# EAGLE library part SCREWTERM_9P (library ME507)
PHOENIX CONNECTOR
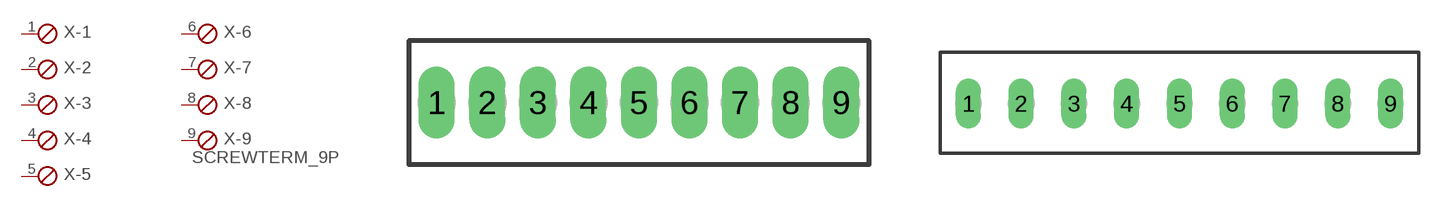
[diagram p1: symbol with the pads of 9POL254; footprints 9POL254, 9POL381]

Designator prefix X; gates -1=SKB -2=SKB -3=SKB -4=SKB -5=SKB -6=SKB -7=SKB -8=SKB -9=SKBV

## SCREWTERM_9P_254  [9POL254]
1  -1:1  pas
2  -2:1  pas
3  -3:1  pas
4  -4:1  pas
5  -5:1  pas
6  -6:1  pas
7  -7:1  pas
8  -8:1  pas
9  -9:1  pas

## SCREWTERM_9P_381  [9POL381]
Pads as for 9POL254

## SCREWTERM_9P_508  [9POL508]
Pads as for 9POL254

## Footprint 9POL254 (pad centres in mm)
PHOENIX CONNECTOR
drill 1.2 long: 1 -10.16,0; 2 -7.62,0; 3 -5.08,0; 4 -2.54,0; 5 0,0; 6 2.54,0; 7 5.08,0; 8 7.62,0; 9 10.16,0

## Footprint 9POL381 (pad centres in mm)
PHOENIX CONNECTOR
drill 1.2 long: 1 -15.24,0; 2 -11.43,0; 3 -7.62,0; 4 -3.81,0; 5 0,0; 6 3.81,0; 7 7.62,0; 8 11.43,0; 9 15.24,0

## Footprint 9POL508 (pad centres in mm)
PHOENIX CONNECTOR
drill 1.4 long: 1 -20.32,0; 2 -15.24,0; 3 -10.16,0; 4 -5.08,0; 5 0,0; 6 5.08,0; 7 10.16,0; 8 15.24,0; 9 20.32,0